# EAGLE library part ST-VL53L0X (library ClintonLib)
ST VL53L0X - 50mm -2000mm Time-of-Flight Sensor VDD = 2.8V Adafruit Schematic <https://cdn-learn.adafruit.com/assets/assets/000/037/548/original/adafruit_products_schem.png?1479934913>, Guide <https://learn.adafruit.com/adafruit-vl53l0x-micro-lidar-distance-sensor-breakout> Digikey <https://www.digikey.com/product-detail/en/stmicroelectronics/VL53L0CXV0DH-1/497-16538-1-ND/6023692>
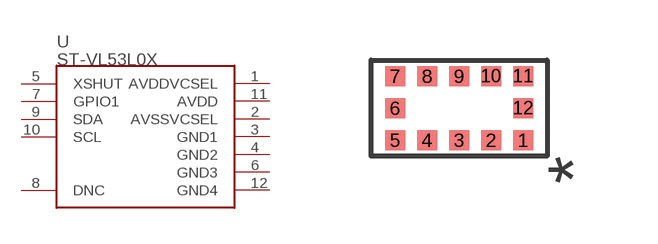
[diagram p13: symbol with the pads of ST-VL53L0X; footprint ST-VL53L0X]

Designator prefix -

## ST-VL53L0X  [ST-VL53L0X]
1  AVDDVCSEL
2  AVSSVCSEL
3  GND1
4  GND2
5  XSHUT
6  GND3
7  GPIO1
8  DNC
9  SDA
10  SCL
11  AVDD
12  GND4

## Footprint ST-VL53L0X (pad centres in mm)
smd 0.5 x 0.5: 1 1.6,-0.8; 2 0.8,-0.8; 3 0,-0.8; 4 -0.8,-0.8; 5 -1.6,-0.8; 6 -1.6,0; 7 -1.6,0.8; 8 -0.8,0.8; 9 0,0.8; 10 0.8,0.8; 11 1.6,0.8; 12 1.6,0